# Altium schematic symbol library yu0316-NSC_LDO.SchLib: 2590 symbols (part 22 of 64)
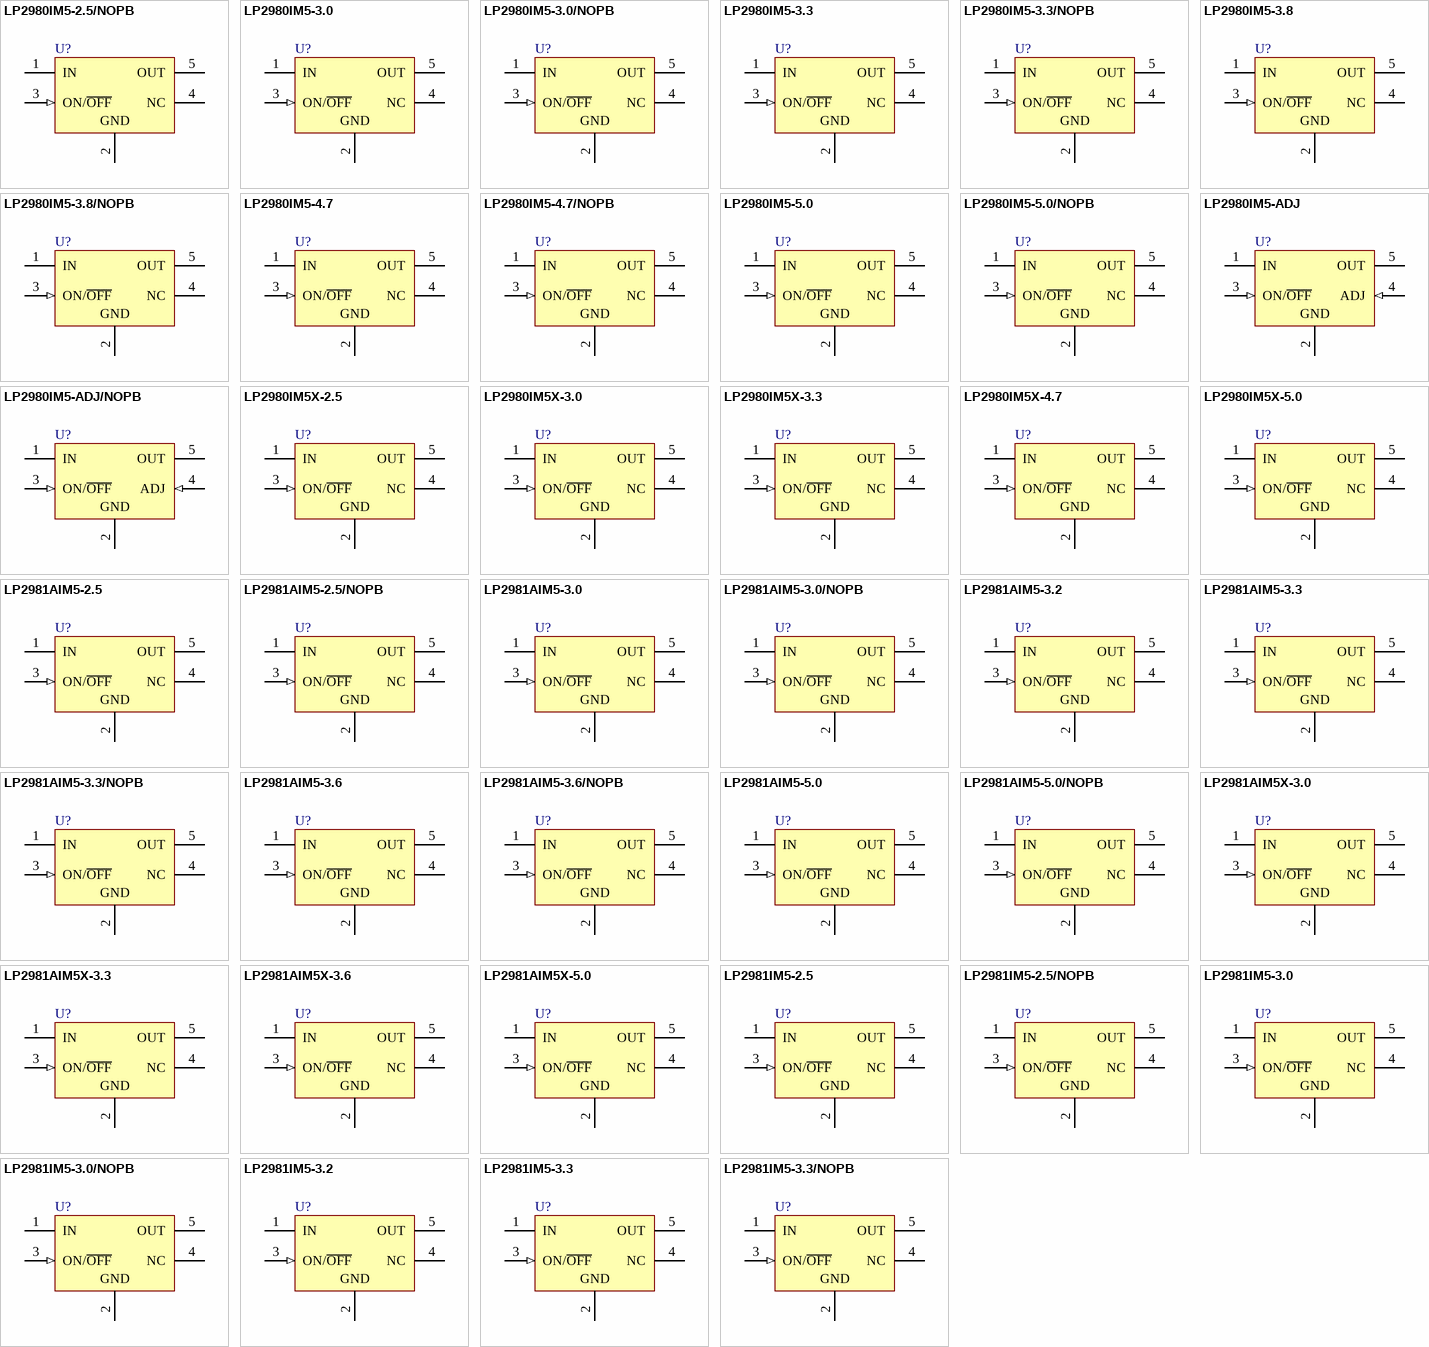
[diagram p86: symbols LP2980IM5-2.5/NOPB to LP2981IM5-3.3/NOPB]

## LP2981AIM5-2.5/NOPB
designator U?
Micropower 100 mA Ultra Low-Dropout Regulator, 5-pin SOT-23, Pb-Free; PartNumber: LP2981AIM5-2.5/NOPB; Manufacturer: National Semiconductor; PackageTopMarking: L0CA*XTT; PowerWise: N; CompType: LDO IC; Published: 1-Mar-2010; DatasheetVersion: Feb-2006; PackageVersion: revD, Aug-2008; PackageReference: MF05A; Publisher: Altium Limited; PackageDescription: Molded SOT-23, .115 x .063 x .040 in Body, 5 Lead, .0375 in Pitch; Supplier 1: Digi-Key; Supplier Part Number 1: LP2981AIM5-2.5TR-ND; Supplier 2: Digi-Key; Supplier Part Number 2: LP2981AIM5-2.5CT-ND; Supplier 3: Digi-Key; Supplier Part Number 3: LP2981AIM5-2.5DKR-ND; Supplier 4: Farnell; Supplier Part Number 4: 1469128; RoHS: Y; PinCount: 5; ComponentLink1Description: LP2981 Datasheet; ComponentLink1URL: http://www.national.com/ds/LP/LP2981.pdf; ComponentLink2Description: LP2981 Web Page; ComponentLink2URL: http://www.national.com/pf/LP/LP2981.html; ComponentLink3Description: MF05A Package Page; ComponentLink3URL: http://www.national.com/packaging/folders/mf05a.html
footprint MF05A_N (SOT23, 5-Leads, Body 2.9x1.6mm, Pitch 0.95mm, Lead Span 2.8mm, IPC Medium Density)
footprint MF05A_L (SOT23, 5-Leads, Body 2.9x1.6mm, Pitch 0.95mm, Lead Span 2.8mm, IPC High Density)
footprint MF05A_M (SOT23, 5-Leads, Body 2.9x1.6mm, Pitch 0.95mm, Lead Span 2.8mm, IPC Low Density)
pins: 1 IN (power), 2 GND (power), 3 ON/~{OFF} (in), 4 NC, 5 OUT (power)

## LP2981AIM5-3.0
designator U?
Micropower 100 mA Ultra Low-Dropout Regulator, 5-pin SOT-23; PartNumber: LP2981AIM5-3.0; Manufacturer: National Semiconductor; PackageTopMarking: L05A*XTT; PowerWise: N; CompType: LDO IC; Published: 4-Dec-2008; DatasheetVersion: Feb-2006; PackageVersion: revD, Aug-2008; PackageReference: MF05A; Publisher: Altium Limited; PackageDescription: Molded SOT-23, .115 x .063 x .040 in Body, 5 Lead, .0375 in Pitch; Supplier 1: Farnell; Supplier Part Number 1: 956156; RoHS: N; PinCount: 5; ComponentLink1Description: LP2981 Datasheet; ComponentLink1URL: http://www.national.com/ds/LP/LP2981.pdf; ComponentLink2Description: LP2981 Web Page; ComponentLink2URL: http://www.national.com/pf/LP/LP2981.html; ComponentLink3Description: MF05A Package Page; ComponentLink3URL: http://www.national.com/packaging/folders/mf05a.html
footprint MF05A_N (SOT23, 5-Leads, Body 2.9x1.6mm, Pitch 0.95mm, Lead Span 2.8mm, IPC Medium Density)
footprint MF05A_L (SOT23, 5-Leads, Body 2.9x1.6mm, Pitch 0.95mm, Lead Span 2.8mm, IPC High Density)
footprint MF05A_M (SOT23, 5-Leads, Body 2.9x1.6mm, Pitch 0.95mm, Lead Span 2.8mm, IPC Low Density)
pins: 1 IN (power), 2 GND (power), 3 ON/~{OFF} (in), 4 NC, 5 OUT (power)

## LP2981AIM5-3.0/NOPB
designator U?
Micropower 100 mA Ultra Low-Dropout Regulator, 5-pin SOT-23, Pb-Free; PartNumber: LP2981AIM5-3.0/NOPB; Manufacturer: National Semiconductor; PackageTopMarking: L05A*XTT; PowerWise: N; CompType: LDO IC; Published: 1-Mar-2010; DatasheetVersion: Feb-2006; PackageVersion: revD, Aug-2008; PackageReference: MF05A; Publisher: Altium Limited; PackageDescription: Molded SOT-23, .115 x .063 x .040 in Body, 5 Lead, .0375 in Pitch; Supplier 1: Digi-Key; Supplier Part Number 1: LP2981AIM5-3.0TR-ND; Supplier 2: Digi-Key; Supplier Part Number 2: LP2981AIM5-3.0CT-ND; Supplier 3: Digi-Key; Supplier Part Number 3: LP2981AIM5-3.0DKR-ND; Supplier 4: Farnell; Supplier Part Number 4: 1685571; RoHS: Y; PinCount: 5; ComponentLink1Description: LP2981 Datasheet; ComponentLink1URL: http://www.national.com/ds/LP/LP2981.pdf; ComponentLink2Description: LP2981 Web Page; ComponentLink2URL: http://www.national.com/pf/LP/LP2981.html; ComponentLink3Description: MF05A Package Page; ComponentLink3URL: http://www.national.com/packaging/folders/mf05a.html
footprint MF05A_N (SOT23, 5-Leads, Body 2.9x1.6mm, Pitch 0.95mm, Lead Span 2.8mm, IPC Medium Density)
footprint MF05A_L (SOT23, 5-Leads, Body 2.9x1.6mm, Pitch 0.95mm, Lead Span 2.8mm, IPC High Density)
footprint MF05A_M (SOT23, 5-Leads, Body 2.9x1.6mm, Pitch 0.95mm, Lead Span 2.8mm, IPC Low Density)
pins: 1 IN (power), 2 GND (power), 3 ON/~{OFF} (in), 4 NC, 5 OUT (power)

## LP2981AIM5-3.2
designator U?
Micropower 100 mA Ultra Low-Dropout Regulator, 5-pin SOT-23; PartNumber: LP2981AIM5-3.2; Manufacturer: National Semiconductor; PackageTopMarking: L35A*XTT; PowerWise: N; CompType: LDO IC; Published: 4-Dec-2008; DatasheetVersion: Feb-2006; PackageVersion: revD, Aug-2008; PackageReference: MF05A; Publisher: Altium Limited; PackageDescription: Molded SOT-23, .115 x .063 x .040 in Body, 5 Lead, .0375 in Pitch; RoHS: N; PinCount: 5; ComponentLink1Description: LP2981 Datasheet; ComponentLink1URL: http://www.national.com/ds/LP/LP2981.pdf; ComponentLink2Description: LP2981 Web Page; ComponentLink2URL: http://www.national.com/pf/LP/LP2981.html; ComponentLink3Description: MF05A Package Page; ComponentLink3URL: http://www.national.com/packaging/folders/mf05a.html
footprint MF05A_N (SOT23, 5-Leads, Body 2.9x1.6mm, Pitch 0.95mm, Lead Span 2.8mm, IPC Medium Density)
footprint MF05A_L (SOT23, 5-Leads, Body 2.9x1.6mm, Pitch 0.95mm, Lead Span 2.8mm, IPC High Density)
footprint MF05A_M (SOT23, 5-Leads, Body 2.9x1.6mm, Pitch 0.95mm, Lead Span 2.8mm, IPC Low Density)
pins: 1 IN (power), 2 GND (power), 3 ON/~{OFF} (in), 4 NC, 5 OUT (power)

## LP2981AIM5-3.3
designator U?
Micropower 100 mA Ultra Low-Dropout Regulator, 5-pin SOT-23; PartNumber: LP2981AIM5-3.3; Manufacturer: National Semiconductor; PackageTopMarking: L04A*XTT; PowerWise: N; CompType: LDO IC; Published: 4-Dec-2008; DatasheetVersion: Feb-2006; PackageVersion: revD, Aug-2008; PackageReference: MF05A; Publisher: Altium Limited; PackageDescription: Molded SOT-23, .115 x .063 x .040 in Body, 5 Lead, .0375 in Pitch; RoHS: N; PinCount: 5; ComponentLink1Description: LP2981 Datasheet; ComponentLink1URL: http://www.national.com/ds/LP/LP2981.pdf; ComponentLink2Description: LP2981 Web Page; ComponentLink2URL: http://www.national.com/pf/LP/LP2981.html; ComponentLink3Description: MF05A Package Page; ComponentLink3URL: http://www.national.com/packaging/folders/mf05a.html
footprint MF05A_N (SOT23, 5-Leads, Body 2.9x1.6mm, Pitch 0.95mm, Lead Span 2.8mm, IPC Medium Density)
footprint MF05A_L (SOT23, 5-Leads, Body 2.9x1.6mm, Pitch 0.95mm, Lead Span 2.8mm, IPC High Density)
footprint MF05A_M (SOT23, 5-Leads, Body 2.9x1.6mm, Pitch 0.95mm, Lead Span 2.8mm, IPC Low Density)
pins: 1 IN (power), 2 GND (power), 3 ON/~{OFF} (in), 4 NC, 5 OUT (power)

## LP2981AIM5-3.3/NOPB
designator U?
Micropower 100 mA Ultra Low-Dropout Regulator, 5-pin SOT-23, Pb-Free; PartNumber: LP2981AIM5-3.3/NOPB; Manufacturer: National Semiconductor; PackageTopMarking: L04A*XTT; PowerWise: N; CompType: LDO IC; Published: 1-Mar-2010; DatasheetVersion: Feb-2006; PackageVersion: revD, Aug-2008; PackageReference: MF05A; Publisher: Altium Limited; PackageDescription: Molded SOT-23, .115 x .063 x .040 in Body, 5 Lead, .0375 in Pitch; Supplier 1: Digi-Key; Supplier Part Number 1: LP2981AIM5-3.3TR-ND; Supplier 2: Digi-Key; Supplier Part Number 2: LP2981AIM5-3.3CT-ND; Supplier 3: Digi-Key; Supplier Part Number 3: LP2981AIM5-3.3DKR-ND; Supplier 4: Farnell; Supplier Part Number 4: 1469129; RoHS: Y; PinCount: 5; ComponentLink1Description: LP2981 Datasheet; ComponentLink1URL: http://www.national.com/ds/LP/LP2981.pdf; ComponentLink2Description: LP2981 Web Page; ComponentLink2URL: http://www.national.com/pf/LP/LP2981.html; ComponentLink3Description: MF05A Package Page; ComponentLink3URL: http://www.national.com/packaging/folders/mf05a.html
footprint MF05A_N (SOT23, 5-Leads, Body 2.9x1.6mm, Pitch 0.95mm, Lead Span 2.8mm, IPC Medium Density)
footprint MF05A_L (SOT23, 5-Leads, Body 2.9x1.6mm, Pitch 0.95mm, Lead Span 2.8mm, IPC High Density)
footprint MF05A_M (SOT23, 5-Leads, Body 2.9x1.6mm, Pitch 0.95mm, Lead Span 2.8mm, IPC Low Density)
pins: 1 IN (power), 2 GND (power), 3 ON/~{OFF} (in), 4 NC, 5 OUT (power)

## LP2981AIM5-3.6
designator U?
Micropower 100 mA Ultra Low-Dropout Regulator, 5-pin SOT-23; PartNumber: LP2981AIM5-3.6; Manufacturer: National Semiconductor; PackageTopMarking: L0JA*XTT; PowerWise: N; CompType: LDO IC; Published: 4-Dec-2008; DatasheetVersion: Feb-2006; PackageVersion: revD, Aug-2008; PackageReference: MF05A; Publisher: Altium Limited; PackageDescription: Molded SOT-23, .115 x .063 x .040 in Body, 5 Lead, .0375 in Pitch; RoHS: N; PinCount: 5; ComponentLink1Description: LP2981 Datasheet; ComponentLink1URL: http://www.national.com/ds/LP/LP2981.pdf; ComponentLink2Description: LP2981 Web Page; ComponentLink2URL: http://www.national.com/pf/LP/LP2981.html; ComponentLink3Description: MF05A Package Page; ComponentLink3URL: http://www.national.com/packaging/folders/mf05a.html
footprint MF05A_N (SOT23, 5-Leads, Body 2.9x1.6mm, Pitch 0.95mm, Lead Span 2.8mm, IPC Medium Density)
footprint MF05A_L (SOT23, 5-Leads, Body 2.9x1.6mm, Pitch 0.95mm, Lead Span 2.8mm, IPC High Density)
footprint MF05A_M (SOT23, 5-Leads, Body 2.9x1.6mm, Pitch 0.95mm, Lead Span 2.8mm, IPC Low Density)
pins: 1 IN (power), 2 GND (power), 3 ON/~{OFF} (in), 4 NC, 5 OUT (power)

## LP2981AIM5-3.6/NOPB
designator U?
Micropower 100 mA Ultra Low-Dropout Regulator, 5-pin SOT-23, Pb-Free; PartNumber: LP2981AIM5-3.6/NOPB; Manufacturer: National Semiconductor; PackageTopMarking: L0JA*XTT; PowerWise: N; CompType: LDO IC; Published: 1-Mar-2010; DatasheetVersion: Feb-2006; PackageVersion: revD, Aug-2008; PackageReference: MF05A; Publisher: Altium Limited; PackageDescription: Molded SOT-23, .115 x .063 x .040 in Body, 5 Lead, .0375 in Pitch; Supplier 1: Digi-Key; Supplier Part Number 1: LP2981AIM5-3.6TR-ND; Supplier 2: Digi-Key; Supplier Part Number 2: LP2981AIM5-3.6CT-ND; Supplier 3: Digi-Key; Supplier Part Number 3: LP2981AIM5-3.6DKR-ND; Supplier 4: Farnell; Supplier Part Number 4: 1685548; RoHS: Y; PinCount: 5; ComponentLink1Description: LP2981 Datasheet; ComponentLink1URL: http://www.national.com/ds/LP/LP2981.pdf; ComponentLink2Description: LP2981 Web Page; ComponentLink2URL: http://www.national.com/pf/LP/LP2981.html; ComponentLink3Description: MF05A Package Page; ComponentLink3URL: http://www.national.com/packaging/folders/mf05a.html
footprint MF05A_N (SOT23, 5-Leads, Body 2.9x1.6mm, Pitch 0.95mm, Lead Span 2.8mm, IPC Medium Density)
footprint MF05A_L (SOT23, 5-Leads, Body 2.9x1.6mm, Pitch 0.95mm, Lead Span 2.8mm, IPC High Density)
footprint MF05A_M (SOT23, 5-Leads, Body 2.9x1.6mm, Pitch 0.95mm, Lead Span 2.8mm, IPC Low Density)
pins: 1 IN (power), 2 GND (power), 3 ON/~{OFF} (in), 4 NC, 5 OUT (power)

## LP2981AIM5-5.0
designator U?
Micropower 100 mA Ultra Low-Dropout Regulator, 5-pin SOT-23; PartNumber: LP2981AIM5-5.0; Manufacturer: National Semiconductor; PackageTopMarking: L03A*XTT; PowerWise: N; CompType: LDO IC; Published: 4-Dec-2008; DatasheetVersion: Feb-2006; PackageVersion: revD, Aug-2008; PackageReference: MF05A; Publisher: Altium Limited; PackageDescription: Molded SOT-23, .115 x .063 x .040 in Body, 5 Lead, .0375 in Pitch; Supplier 1: Farnell; Supplier Part Number 1: 9779957; RoHS: N; PinCount: 5; ComponentLink1Description: LP2981 Datasheet; ComponentLink1URL: http://www.national.com/ds/LP/LP2981.pdf; ComponentLink2Description: LP2981 Web Page; ComponentLink2URL: http://www.national.com/pf/LP/LP2981.html; ComponentLink3Description: MF05A Package Page; ComponentLink3URL: http://www.national.com/packaging/folders/mf05a.html
footprint MF05A_N (SOT23, 5-Leads, Body 2.9x1.6mm, Pitch 0.95mm, Lead Span 2.8mm, IPC Medium Density)
footprint MF05A_L (SOT23, 5-Leads, Body 2.9x1.6mm, Pitch 0.95mm, Lead Span 2.8mm, IPC High Density)
footprint MF05A_M (SOT23, 5-Leads, Body 2.9x1.6mm, Pitch 0.95mm, Lead Span 2.8mm, IPC Low Density)
pins: 1 IN (power), 2 GND (power), 3 ON/~{OFF} (in), 4 NC, 5 OUT (power)

## LP2981AIM5-5.0/NOPB
designator U?
Micropower 100 mA Ultra Low-Dropout Regulator, 5-pin SOT-23, Pb-Free; PartNumber: LP2981AIM5-5.0/NOPB; Manufacturer: National Semiconductor; PackageTopMarking: L03A*XTT; PowerWise: N; CompType: LDO IC; Published: 1-Mar-2010; DatasheetVersion: Feb-2006; PackageVersion: revD, Aug-2008; PackageReference: MF05A; Publisher: Altium Limited; PackageDescription: Molded SOT-23, .115 x .063 x .040 in Body, 5 Lead, .0375 in Pitch; Supplier 1: Digi-Key; Supplier Part Number 1: LP2981AIM5-5.0TR-ND; Supplier 2: Digi-Key; Supplier Part Number 2: LP2981AIM5-5.0CT-ND; Supplier 3: Digi-Key; Supplier Part Number 3: LP2981AIM5-5.0DKR-ND; Supplier 4: Farnell; Supplier Part Number 4: 1150330; RoHS: Y; PinCount: 5; ComponentLink1Description: LP2981 Datasheet; ComponentLink1URL: http://www.national.com/ds/LP/LP2981.pdf; ComponentLink2Description: LP2981 Web Page; ComponentLink2URL: http://www.national.com/pf/LP/LP2981.html; ComponentLink3Description: MF05A Package Page; ComponentLink3URL: http://www.national.com/packaging/folders/mf05a.html
footprint MF05A_N (SOT23, 5-Leads, Body 2.9x1.6mm, Pitch 0.95mm, Lead Span 2.8mm, IPC Medium Density)
footprint MF05A_L (SOT23, 5-Leads, Body 2.9x1.6mm, Pitch 0.95mm, Lead Span 2.8mm, IPC High Density)
footprint MF05A_M (SOT23, 5-Leads, Body 2.9x1.6mm, Pitch 0.95mm, Lead Span 2.8mm, IPC Low Density)
pins: 1 IN (power), 2 GND (power), 3 ON/~{OFF} (in), 4 NC, 5 OUT (power)

## LP2981AIM5X-3.0
designator U?
Micropower 100 mA Ultra Low-Dropout Regulator, 5-pin SOT-23; PartNumber: LP2981AIM5X-3.0; Manufacturer: National Semiconductor; PackageTopMarking: L05A*XTT; PowerWise: N; CompType: LDO IC; Published: 1-Mar-2010; DatasheetVersion: Feb-2006; PackageVersion: revD, Aug-2008; PackageReference: MF05A; Publisher: Altium Limited; PackageDescription: Molded SOT-23, .115 x .063 x .040 in Body, 5 Lead, .0375 in Pitch; RoHS: N; PinCount: 5; ComponentLink1Description: LP2981 Datasheet; ComponentLink1URL: http://www.national.com/ds/LP/LP2981.pdf; ComponentLink2Description: LP2981 Web Page; ComponentLink2URL: http://www.national.com/pf/LP/LP2981.html; ComponentLink3Description: MF05A Package Page; ComponentLink3URL: http://www.national.com/packaging/folders/mf05a.html
footprint MF05A_N (SOT23, 5-Leads, Body 2.9x1.6mm, Pitch 0.95mm, Lead Span 2.8mm, IPC Medium Density)
footprint MF05A_L (SOT23, 5-Leads, Body 2.9x1.6mm, Pitch 0.95mm, Lead Span 2.8mm, IPC High Density)
footprint MF05A_M (SOT23, 5-Leads, Body 2.9x1.6mm, Pitch 0.95mm, Lead Span 2.8mm, IPC Low Density)
pins: 1 IN (power), 2 GND (power), 3 ON/~{OFF} (in), 4 NC, 5 OUT (power)

## LP2981AIM5X-3.3
designator U?
Micropower 100 mA Ultra Low-Dropout Regulator, 5-pin SOT-23; PartNumber: LP2981AIM5X-3.3; Manufacturer: National Semiconductor; PackageTopMarking: L04A*XTT; PowerWise: N; CompType: LDO IC; Published: 1-Mar-2010; DatasheetVersion: Feb-2006; PackageVersion: revD, Aug-2008; PackageReference: MF05A; Publisher: Altium Limited; PackageDescription: Molded SOT-23, .115 x .063 x .040 in Body, 5 Lead, .0375 in Pitch; RoHS: N; PinCount: 5; ComponentLink1Description: LP2981 Datasheet; ComponentLink1URL: http://www.national.com/ds/LP/LP2981.pdf; ComponentLink2Description: LP2981 Web Page; ComponentLink2URL: http://www.national.com/pf/LP/LP2981.html; ComponentLink3Description: MF05A Package Page; ComponentLink3URL: http://www.national.com/packaging/folders/mf05a.html
footprint MF05A_N (SOT23, 5-Leads, Body 2.9x1.6mm, Pitch 0.95mm, Lead Span 2.8mm, IPC Medium Density)
footprint MF05A_L (SOT23, 5-Leads, Body 2.9x1.6mm, Pitch 0.95mm, Lead Span 2.8mm, IPC High Density)
footprint MF05A_M (SOT23, 5-Leads, Body 2.9x1.6mm, Pitch 0.95mm, Lead Span 2.8mm, IPC Low Density)
pins: 1 IN (power), 2 GND (power), 3 ON/~{OFF} (in), 4 NC, 5 OUT (power)

## LP2981AIM5X-3.6
designator U?
Micropower 100 mA Ultra Low-Dropout Regulator, 5-pin SOT-23; PartNumber: LP2981AIM5X-3.6; Manufacturer: National Semiconductor; PackageTopMarking: L0JA*XTT; PowerWise: N; CompType: LDO IC; Published: 1-Mar-2010; DatasheetVersion: Feb-2006; PackageVersion: revD, Aug-2008; PackageReference: MF05A; Publisher: Altium Limited; PackageDescription: Molded SOT-23, .115 x .063 x .040 in Body, 5 Lead, .0375 in Pitch; RoHS: N; PinCount: 5; ComponentLink1Description: LP2981 Datasheet; ComponentLink1URL: http://www.national.com/ds/LP/LP2981.pdf; ComponentLink2Description: LP2981 Web Page; ComponentLink2URL: http://www.national.com/pf/LP/LP2981.html; ComponentLink3Description: MF05A Package Page; ComponentLink3URL: http://www.national.com/packaging/folders/mf05a.html
footprint MF05A_N (SOT23, 5-Leads, Body 2.9x1.6mm, Pitch 0.95mm, Lead Span 2.8mm, IPC Medium Density)
footprint MF05A_L (SOT23, 5-Leads, Body 2.9x1.6mm, Pitch 0.95mm, Lead Span 2.8mm, IPC High Density)
footprint MF05A_M (SOT23, 5-Leads, Body 2.9x1.6mm, Pitch 0.95mm, Lead Span 2.8mm, IPC Low Density)
pins: 1 IN (power), 2 GND (power), 3 ON/~{OFF} (in), 4 NC, 5 OUT (power)

## LP2981AIM5X-5.0
designator U?
Micropower 100 mA Ultra Low-Dropout Regulator, 5-pin SOT-23; PartNumber: LP2981AIM5X-5.0; Manufacturer: National Semiconductor; PackageTopMarking: L03A*XTT; PowerWise: N; CompType: LDO IC; Published: 1-Mar-2010; DatasheetVersion: Feb-2006; PackageVersion: revD, Aug-2008; PackageReference: MF05A; Publisher: Altium Limited; PackageDescription: Molded SOT-23, .115 x .063 x .040 in Body, 5 Lead, .0375 in Pitch; RoHS: N; PinCount: 5; ComponentLink1Description: LP2981 Datasheet; ComponentLink1URL: http://www.national.com/ds/LP/LP2981.pdf; ComponentLink2Description: LP2981 Web Page; ComponentLink2URL: http://www.national.com/pf/LP/LP2981.html; ComponentLink3Description: MF05A Package Page; ComponentLink3URL: http://www.national.com/packaging/folders/mf05a.html
footprint MF05A_N (SOT23, 5-Leads, Body 2.9x1.6mm, Pitch 0.95mm, Lead Span 2.8mm, IPC Medium Density)
footprint MF05A_L (SOT23, 5-Leads, Body 2.9x1.6mm, Pitch 0.95mm, Lead Span 2.8mm, IPC High Density)
footprint MF05A_M (SOT23, 5-Leads, Body 2.9x1.6mm, Pitch 0.95mm, Lead Span 2.8mm, IPC Low Density)
pins: 1 IN (power), 2 GND (power), 3 ON/~{OFF} (in), 4 NC, 5 OUT (power)

## LP2981IM5-2.5
designator U?
Micropower 100 mA Ultra Low-Dropout Regulator, 5-pin SOT-23; PartNumber: LP2981IM5-2.5; Manufacturer: National Semiconductor; PackageTopMarking: L0CB*XTT; PowerWise: N; CompType: LDO IC; Published: 4-Dec-2008; DatasheetVersion: Feb-2006; PackageVersion: revD, Aug-2008; PackageReference: MF05A; Publisher: Altium Limited; PackageDescription: Molded SOT-23, .115 x .063 x .040 in Body, 5 Lead, .0375 in Pitch; RoHS: N; PinCount: 5; ComponentLink1Description: LP2981 Datasheet; ComponentLink1URL: http://www.national.com/ds/LP/LP2981.pdf; ComponentLink2Description: LP2981 Web Page; ComponentLink2URL: http://www.national.com/pf/LP/LP2981.html; ComponentLink3Description: MF05A Package Page; ComponentLink3URL: http://www.national.com/packaging/folders/mf05a.html
footprint MF05A_N (SOT23, 5-Leads, Body 2.9x1.6mm, Pitch 0.95mm, Lead Span 2.8mm, IPC Medium Density)
footprint MF05A_L (SOT23, 5-Leads, Body 2.9x1.6mm, Pitch 0.95mm, Lead Span 2.8mm, IPC High Density)
footprint MF05A_M (SOT23, 5-Leads, Body 2.9x1.6mm, Pitch 0.95mm, Lead Span 2.8mm, IPC Low Density)
pins: 1 IN (power), 2 GND (power), 3 ON/~{OFF} (in), 4 NC, 5 OUT (power)

## LP2981IM5-2.5/NOPB
designator U?
Micropower 100 mA Ultra Low-Dropout Regulator, 5-pin SOT-23, Pb-Free; PartNumber: LP2981IM5-2.5/NOPB; Manufacturer: National Semiconductor; PackageTopMarking: L0CB*XTT; PowerWise: N; CompType: LDO IC; Published: 1-Mar-2010; DatasheetVersion: Feb-2006; PackageVersion: revD, Aug-2008; PackageReference: MF05A; Publisher: Altium Limited; PackageDescription: Molded SOT-23, .115 x .063 x .040 in Body, 5 Lead, .0375 in Pitch; Supplier 1: Digi-Key; Supplier Part Number 1: LP2981IM5-2.5TR-ND; Supplier 2: Digi-Key; Supplier Part Number 2: LP2981IM5-2.5CT-ND; Supplier 3: Digi-Key; Supplier Part Number 3: LP2981IM5-2.5DKR-ND; Supplier 4: Farnell; Supplier Part Number 4: 1685495; RoHS: Y; PinCount: 5; ComponentLink1Description: LP2981 Datasheet; ComponentLink1URL: http://www.national.com/ds/LP/LP2981.pdf; ComponentLink2Description: LP2981 Web Page; ComponentLink2URL: http://www.national.com/pf/LP/LP2981.html; ComponentLink3Description: MF05A Package Page; ComponentLink3URL: http://www.national.com/packaging/folders/mf05a.html
footprint MF05A_N (SOT23, 5-Leads, Body 2.9x1.6mm, Pitch 0.95mm, Lead Span 2.8mm, IPC Medium Density)
footprint MF05A_L (SOT23, 5-Leads, Body 2.9x1.6mm, Pitch 0.95mm, Lead Span 2.8mm, IPC High Density)
footprint MF05A_M (SOT23, 5-Leads, Body 2.9x1.6mm, Pitch 0.95mm, Lead Span 2.8mm, IPC Low Density)
pins: 1 IN (power), 2 GND (power), 3 ON/~{OFF} (in), 4 NC, 5 OUT (power)

## LP2981IM5-3.0
designator U?
Micropower 100 mA Ultra Low-Dropout Regulator, 5-pin SOT-23; PartNumber: LP2981IM5-3.0; Manufacturer: National Semiconductor; PackageTopMarking: L05B*XTT; PowerWise: N; CompType: LDO IC; Published: 4-Dec-2008; DatasheetVersion: Feb-2006; PackageVersion: revD, Aug-2008; PackageReference: MF05A; Publisher: Altium Limited; PackageDescription: Molded SOT-23, .115 x .063 x .040 in Body, 5 Lead, .0375 in Pitch; Supplier 1: Farnell; Supplier Part Number 1: 9779809; RoHS: N; PinCount: 5; ComponentLink1Description: LP2981 Datasheet; ComponentLink1URL: http://www.national.com/ds/LP/LP2981.pdf; ComponentLink2Description: LP2981 Web Page; ComponentLink2URL: http://www.national.com/pf/LP/LP2981.html; ComponentLink3Description: MF05A Package Page; ComponentLink3URL: http://www.national.com/packaging/folders/mf05a.html
footprint MF05A_N (SOT23, 5-Leads, Body 2.9x1.6mm, Pitch 0.95mm, Lead Span 2.8mm, IPC Medium Density)
footprint MF05A_L (SOT23, 5-Leads, Body 2.9x1.6mm, Pitch 0.95mm, Lead Span 2.8mm, IPC High Density)
footprint MF05A_M (SOT23, 5-Leads, Body 2.9x1.6mm, Pitch 0.95mm, Lead Span 2.8mm, IPC Low Density)
pins: 1 IN (power), 2 GND (power), 3 ON/~{OFF} (in), 4 NC, 5 OUT (power)

## LP2981IM5-3.0/NOPB
designator U?
Micropower 100 mA Ultra Low-Dropout Regulator, 5-pin SOT-23, Pb-Free; PartNumber: LP2981IM5-3.0/NOPB; Manufacturer: National Semiconductor; PackageTopMarking: L05B*XTT; PowerWise: N; CompType: LDO IC; Published: 1-Mar-2010; DatasheetVersion: Feb-2006; PackageVersion: revD, Aug-2008; PackageReference: MF05A; Publisher: Altium Limited; PackageDescription: Molded SOT-23, .115 x .063 x .040 in Body, 5 Lead, .0375 in Pitch; Supplier 1: Digi-Key; Supplier Part Number 1: LP2981IM5-3.0TR-ND; Supplier 2: Digi-Key; Supplier Part Number 2: LP2981IM5-3.0CT-ND; Supplier 3: Digi-Key; Supplier Part Number 3: LP2981IM5-3.0DKR-ND; Supplier 4: Farnell; Supplier Part Number 4: 1694037; RoHS: Y; PinCount: 5; ComponentLink1Description: LP2981 Datasheet; ComponentLink1URL: http://www.national.com/ds/LP/LP2981.pdf; ComponentLink2Description: LP2981 Web Page; ComponentLink2URL: http://www.national.com/pf/LP/LP2981.html; ComponentLink3Description: MF05A Package Page; ComponentLink3URL: http://www.national.com/packaging/folders/mf05a.html
footprint MF05A_N (SOT23, 5-Leads, Body 2.9x1.6mm, Pitch 0.95mm, Lead Span 2.8mm, IPC Medium Density)
footprint MF05A_L (SOT23, 5-Leads, Body 2.9x1.6mm, Pitch 0.95mm, Lead Span 2.8mm, IPC High Density)
footprint MF05A_M (SOT23, 5-Leads, Body 2.9x1.6mm, Pitch 0.95mm, Lead Span 2.8mm, IPC Low Density)
pins: 1 IN (power), 2 GND (power), 3 ON/~{OFF} (in), 4 NC, 5 OUT (power)

## LP2981IM5-3.2
designator U?
Micropower 100 mA Ultra Low-Dropout Regulator, 5-pin SOT-23; PartNumber: LP2981IM5-3.2; Manufacturer: National Semiconductor; PackageTopMarking: L35B*XTT; PowerWise: N; CompType: LDO IC; Published: 4-Dec-2008; DatasheetVersion: Feb-2006; PackageVersion: revD, Aug-2008; PackageReference: MF05A; Publisher: Altium Limited; PackageDescription: Molded SOT-23, .115 x .063 x .040 in Body, 5 Lead, .0375 in Pitch; Supplier 1: Digi-Key; Supplier Part Number 1: LP2981IM5-3.2CT-ND; RoHS: Y; PinCount: 5; ComponentLink1Description: LP2981 Datasheet; ComponentLink1URL: http://www.national.com/ds/LP/LP2981.pdf; ComponentLink2Description: LP2981 Web Page; ComponentLink2URL: http://www.national.com/pf/LP/LP2981.html; ComponentLink3Description: MF05A Package Page; ComponentLink3URL: http://www.national.com/packaging/folders/mf05a.html
footprint MF05A_N (SOT23, 5-Leads, Body 2.9x1.6mm, Pitch 0.95mm, Lead Span 2.8mm, IPC Medium Density)
footprint MF05A_L (SOT23, 5-Leads, Body 2.9x1.6mm, Pitch 0.95mm, Lead Span 2.8mm, IPC High Density)
footprint MF05A_M (SOT23, 5-Leads, Body 2.9x1.6mm, Pitch 0.95mm, Lead Span 2.8mm, IPC Low Density)
pins: 1 IN (power), 2 GND (power), 3 ON/~{OFF} (in), 4 NC, 5 OUT (power)

## LP2981IM5-3.3
designator U?
Micropower 100 mA Ultra Low-Dropout Regulator, 5-pin SOT-23; PartNumber: LP2981IM5-3.3; Manufacturer: National Semiconductor; PackageTopMarking: L04B*XTT; PowerWise: N; CompType: LDO IC; Published: 4-Dec-2008; DatasheetVersion: Feb-2006; PackageVersion: revD, Aug-2008; PackageReference: MF05A; Publisher: Altium Limited; PackageDescription: Molded SOT-23, .115 x .063 x .040 in Body, 5 Lead, .0375 in Pitch; Supplier 1: Digi-Key; Supplier Part Number 1: LP2981IM5-3.3-ND; Supplier 2: Farnell; Supplier Part Number 2: 9779965; RoHS: N; PinCount: 5; ComponentLink1Description: LP2981 Datasheet; ComponentLink1URL: http://www.national.com/ds/LP/LP2981.pdf; ComponentLink2Description: LP2981 Web Page; ComponentLink2URL: http://www.national.com/pf/LP/LP2981.html; ComponentLink3Description: MF05A Package Page; ComponentLink3URL: http://www.national.com/packaging/folders/mf05a.html
footprint MF05A_N (SOT23, 5-Leads, Body 2.9x1.6mm, Pitch 0.95mm, Lead Span 2.8mm, IPC Medium Density)
footprint MF05A_L (SOT23, 5-Leads, Body 2.9x1.6mm, Pitch 0.95mm, Lead Span 2.8mm, IPC High Density)
footprint MF05A_M (SOT23, 5-Leads, Body 2.9x1.6mm, Pitch 0.95mm, Lead Span 2.8mm, IPC Low Density)
pins: 1 IN (power), 2 GND (power), 3 ON/~{OFF} (in), 4 NC, 5 OUT (power)

## LP2981IM5-3.3/NOPB
designator U?
Micropower 100 mA Ultra Low-Dropout Regulator, 5-pin SOT-23, Pb-Free; PartNumber: LP2981IM5-3.3/NOPB; Manufacturer: National Semiconductor; PackageTopMarking: L04B*XTT; PowerWise: N; CompType: LDO IC; Published: 1-Mar-2010; DatasheetVersion: Feb-2006; PackageVersion: revD, Aug-2008; PackageReference: MF05A; Publisher: Altium Limited; PackageDescription: Molded SOT-23, .115 x .063 x .040 in Body, 5 Lead, .0375 in Pitch; Supplier 1: Digi-Key; Supplier Part Number 1: LP2981IM5-3.3/NOPBTR-ND; Supplier 2: Digi-Key; Supplier Part Number 2: LP2981IM5-3.3/NOPBCT-ND; Supplier 3: Farnell; Supplier Part Number 3: 1469130; RoHS: Y; PinCount: 5; ComponentLink1Description: LP2981 Datasheet; ComponentLink1URL: http://www.national.com/ds/LP/LP2981.pdf; ComponentLink2Description: LP2981 Web Page; ComponentLink2URL: http://www.national.com/pf/LP/LP2981.html; ComponentLink3Description: MF05A Package Page; ComponentLink3URL: http://www.national.com/packaging/folders/mf05a.html
footprint MF05A_N (SOT23, 5-Leads, Body 2.9x1.6mm, Pitch 0.95mm, Lead Span 2.8mm, IPC Medium Density)
footprint MF05A_L (SOT23, 5-Leads, Body 2.9x1.6mm, Pitch 0.95mm, Lead Span 2.8mm, IPC High Density)
footprint MF05A_M (SOT23, 5-Leads, Body 2.9x1.6mm, Pitch 0.95mm, Lead Span 2.8mm, IPC Low Density)
pins: 1 IN (power), 2 GND (power), 3 ON/~{OFF} (in), 4 NC, 5 OUT (power)

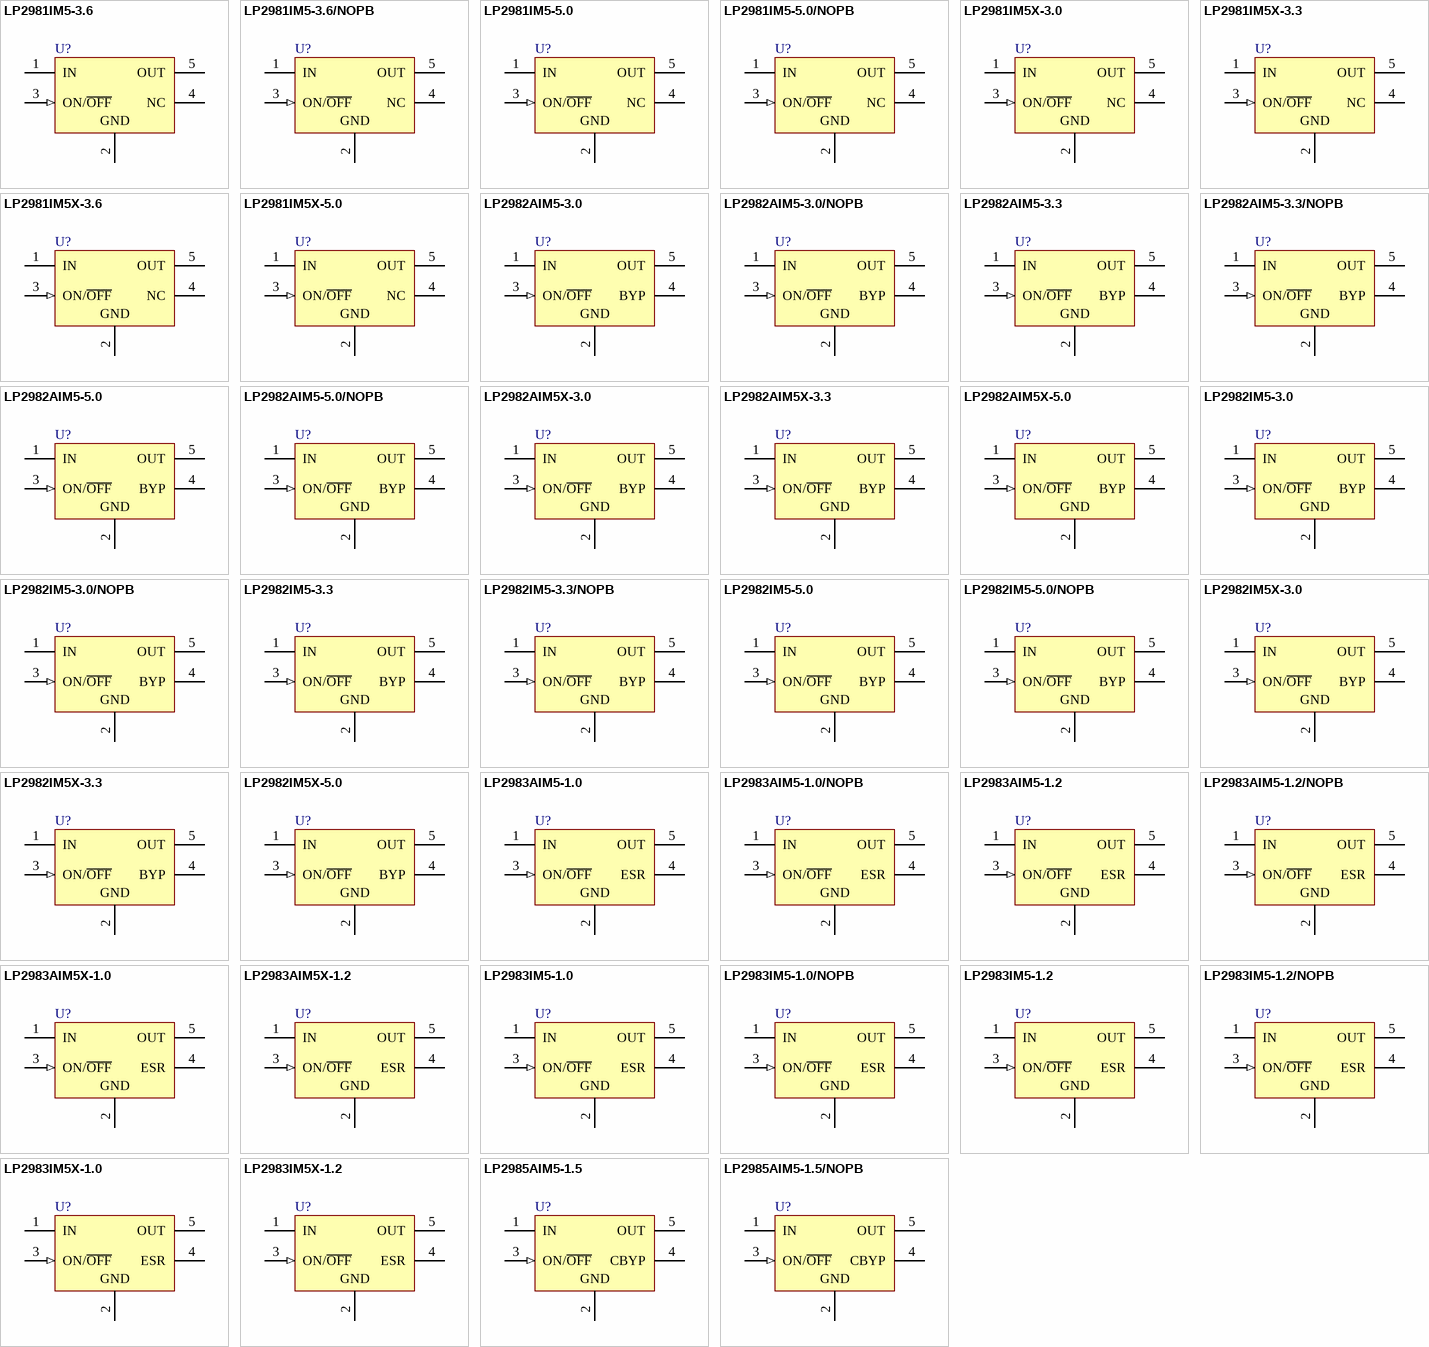
[diagram p23: symbols LP2981IM5-3.6 to LP2985AIM5-1.5/NOPB]

## LP2981IM5-3.6
designator U?
Micropower 100 mA Ultra Low-Dropout Regulator, 5-pin SOT-23; PartNumber: LP2981IM5-3.6; Manufacturer: National Semiconductor; PackageTopMarking: L0JB*XTT; PowerWise: N; CompType: LDO IC; Published: 4-Dec-2008; DatasheetVersion: Feb-2006; PackageVersion: revD, Aug-2008; PackageReference: MF05A; Publisher: Altium Limited; PackageDescription: Molded SOT-23, .115 x .063 x .040 in Body, 5 Lead, .0375 in Pitch; Supplier 1: Digi-Key; Supplier Part Number 1: LP2981IM5-3.6TR-ND; RoHS: N; PinCount: 5; ComponentLink1Description: LP2981 Datasheet; ComponentLink1URL: http://www.national.com/ds/LP/LP2981.pdf; ComponentLink2Description: LP2981 Web Page; ComponentLink2URL: http://www.national.com/pf/LP/LP2981.html; ComponentLink3Description: MF05A Package Page; ComponentLink3URL: http://www.national.com/packaging/folders/mf05a.html
footprint MF05A_N (SOT23, 5-Leads, Body 2.9x1.6mm, Pitch 0.95mm, Lead Span 2.8mm, IPC Medium Density)
footprint MF05A_L (SOT23, 5-Leads, Body 2.9x1.6mm, Pitch 0.95mm, Lead Span 2.8mm, IPC High Density)
footprint MF05A_M (SOT23, 5-Leads, Body 2.9x1.6mm, Pitch 0.95mm, Lead Span 2.8mm, IPC Low Density)
pins: 1 IN (power), 2 GND (power), 3 ON/~{OFF} (in), 4 NC, 5 OUT (power)

## LP2981IM5-3.6/NOPB
designator U?
Micropower 100 mA Ultra Low-Dropout Regulator, 5-pin SOT-23, Pb-Free; PartNumber: LP2981IM5-3.6/NOPB; Manufacturer: National Semiconductor; PackageTopMarking: L0JB*XTT; PowerWise: N; CompType: LDO IC; Published: 1-Mar-2010; DatasheetVersion: Feb-2006; PackageVersion: revD, Aug-2008; PackageReference: MF05A; Publisher: Altium Limited; PackageDescription: Molded SOT-23, .115 x .063 x .040 in Body, 5 Lead, .0375 in Pitch; Supplier 1: Digi-Key; Supplier Part Number 1: LP2981IM5-3.6/NOPBTR-ND; Supplier 2: Digi-Key; Supplier Part Number 2: LP2981IM5-3.6/NOPBCT-ND; Supplier 3: Digi-Key; Supplier Part Number 3: LP2981IM5-3.6/NOPBDKR-ND; Supplier 4: Farnell; Supplier Part Number 4: 1694553; RoHS: Y; PinCount: 5; ComponentLink1Description: LP2981 Datasheet; ComponentLink1URL: http://www.national.com/ds/LP/LP2981.pdf; ComponentLink2Description: LP2981 Web Page; ComponentLink2URL: http://www.national.com/pf/LP/LP2981.html; ComponentLink3Description: MF05A Package Page; ComponentLink3URL: http://www.national.com/packaging/folders/mf05a.html
footprint MF05A_N (SOT23, 5-Leads, Body 2.9x1.6mm, Pitch 0.95mm, Lead Span 2.8mm, IPC Medium Density)
footprint MF05A_L (SOT23, 5-Leads, Body 2.9x1.6mm, Pitch 0.95mm, Lead Span 2.8mm, IPC High Density)
footprint MF05A_M (SOT23, 5-Leads, Body 2.9x1.6mm, Pitch 0.95mm, Lead Span 2.8mm, IPC Low Density)
pins: 1 IN (power), 2 GND (power), 3 ON/~{OFF} (in), 4 NC, 5 OUT (power)

## LP2981IM5-5.0
designator U?
Micropower 100 mA Ultra Low-Dropout Regulator, 5-pin SOT-23; PartNumber: LP2981IM5-5.0; Manufacturer: National Semiconductor; PackageTopMarking: L03B*XTT; PowerWise: N; CompType: LDO IC; Published: 4-Dec-2008; DatasheetVersion: Feb-2006; PackageVersion: revD, Aug-2008; PackageReference: MF05A; Publisher: Altium Limited; PackageDescription: Molded SOT-23, .115 x .063 x .040 in Body, 5 Lead, .0375 in Pitch; Supplier 1: Farnell; Supplier Part Number 1: 9779817; RoHS: N; PinCount: 5; ComponentLink1Description: LP2981 Datasheet; ComponentLink1URL: http://www.national.com/ds/LP/LP2981.pdf; ComponentLink2Description: LP2981 Web Page; ComponentLink2URL: http://www.national.com/pf/LP/LP2981.html; ComponentLink3Description: MF05A Package Page; ComponentLink3URL: http://www.national.com/packaging/folders/mf05a.html
footprint MF05A_N (SOT23, 5-Leads, Body 2.9x1.6mm, Pitch 0.95mm, Lead Span 2.8mm, IPC Medium Density)
footprint MF05A_L (SOT23, 5-Leads, Body 2.9x1.6mm, Pitch 0.95mm, Lead Span 2.8mm, IPC High Density)
footprint MF05A_M (SOT23, 5-Leads, Body 2.9x1.6mm, Pitch 0.95mm, Lead Span 2.8mm, IPC Low Density)
pins: 1 IN (power), 2 GND (power), 3 ON/~{OFF} (in), 4 NC, 5 OUT (power)

## LP2981IM5-5.0/NOPB
designator U?
Micropower 100 mA Ultra Low-Dropout Regulator, 5-pin SOT-23, Pb-Free; PartNumber: LP2981IM5-5.0/NOPB; Manufacturer: National Semiconductor; PackageTopMarking: L03B*XTT; PowerWise: N; CompType: LDO IC; Published: 1-Mar-2010; DatasheetVersion: Feb-2006; PackageVersion: revD, Aug-2008; PackageReference: MF05A; Publisher: Altium Limited; PackageDescription: Molded SOT-23, .115 x .063 x .040 in Body, 5 Lead, .0375 in Pitch; Supplier 1: Digi-Key; Supplier Part Number 1: LP2981IM5-5.0TR-ND; Supplier 2: Digi-Key; Supplier Part Number 2: LP2981IM5-5.0CT-ND; Supplier 3: Digi-Key; Supplier Part Number 3: LP2981IM5-5.0DKR-ND; Supplier 4: Farnell; Supplier Part Number 4: 1530907; RoHS: Y; PinCount: 5; ComponentLink1Description: LP2981 Datasheet; ComponentLink1URL: http://www.national.com/ds/LP/LP2981.pdf; ComponentLink2Description: LP2981 Web Page; ComponentLink2URL: http://www.national.com/pf/LP/LP2981.html; ComponentLink3Description: MF05A Package Page; ComponentLink3URL: http://www.national.com/packaging/folders/mf05a.html
footprint MF05A_N (SOT23, 5-Leads, Body 2.9x1.6mm, Pitch 0.95mm, Lead Span 2.8mm, IPC Medium Density)
footprint MF05A_L (SOT23, 5-Leads, Body 2.9x1.6mm, Pitch 0.95mm, Lead Span 2.8mm, IPC High Density)
footprint MF05A_M (SOT23, 5-Leads, Body 2.9x1.6mm, Pitch 0.95mm, Lead Span 2.8mm, IPC Low Density)
pins: 1 IN (power), 2 GND (power), 3 ON/~{OFF} (in), 4 NC, 5 OUT (power)

## LP2981IM5X-3.0
designator U?
Micropower 100 mA Ultra Low-Dropout Regulator, 5-pin SOT-23; PartNumber: LP2981IM5X-3.0; Manufacturer: National Semiconductor; PackageTopMarking: L05B*XTT; PowerWise: N; CompType: LDO IC; Published: 1-Mar-2010; DatasheetVersion: Feb-2006; PackageVersion: revD, Aug-2008; PackageReference: MF05A; Publisher: Altium Limited; PackageDescription: Molded SOT-23, .115 x .063 x .040 in Body, 5 Lead, .0375 in Pitch; RoHS: N; PinCount: 5; ComponentLink1Description: LP2981 Datasheet; ComponentLink1URL: http://www.national.com/ds/LP/LP2981.pdf; ComponentLink2Description: LP2981 Web Page; ComponentLink2URL: http://www.national.com/pf/LP/LP2981.html; ComponentLink3Description: MF05A Package Page; ComponentLink3URL: http://www.national.com/packaging/folders/mf05a.html
footprint MF05A_N (SOT23, 5-Leads, Body 2.9x1.6mm, Pitch 0.95mm, Lead Span 2.8mm, IPC Medium Density)
footprint MF05A_L (SOT23, 5-Leads, Body 2.9x1.6mm, Pitch 0.95mm, Lead Span 2.8mm, IPC High Density)
footprint MF05A_M (SOT23, 5-Leads, Body 2.9x1.6mm, Pitch 0.95mm, Lead Span 2.8mm, IPC Low Density)
pins: 1 IN (power), 2 GND (power), 3 ON/~{OFF} (in), 4 NC, 5 OUT (power)

## LP2981IM5X-3.3
designator U?
Micropower 100 mA Ultra Low-Dropout Regulator, 5-pin SOT-23; PartNumber: LP2981IM5X-3.3; Manufacturer: National Semiconductor; PackageTopMarking: L04B*XTT; PowerWise: N; CompType: LDO IC; Published: 1-Mar-2010; DatasheetVersion: Feb-2006; PackageVersion: revD, Aug-2008; PackageReference: MF05A; Publisher: Altium Limited; PackageDescription: Molded SOT-23, .115 x .063 x .040 in Body, 5 Lead, .0375 in Pitch; Supplier 1: Digi-Key; Supplier Part Number 1: LP2981IM5X-3.3TR-ND; Supplier 2: Digi-Key; Supplier Part Number 2: LP2981IM5X-3.3CT-ND; RoHS: N; PinCount: 5; ComponentLink1Description: LP2981 Datasheet; ComponentLink1URL: http://www.national.com/ds/LP/LP2981.pdf; ComponentLink2Description: LP2981 Web Page; ComponentLink2URL: http://www.national.com/pf/LP/LP2981.html; ComponentLink3Description: MF05A Package Page; ComponentLink3URL: http://www.national.com/packaging/folders/mf05a.html
footprint MF05A_N (SOT23, 5-Leads, Body 2.9x1.6mm, Pitch 0.95mm, Lead Span 2.8mm, IPC Medium Density)
footprint MF05A_L (SOT23, 5-Leads, Body 2.9x1.6mm, Pitch 0.95mm, Lead Span 2.8mm, IPC High Density)
footprint MF05A_M (SOT23, 5-Leads, Body 2.9x1.6mm, Pitch 0.95mm, Lead Span 2.8mm, IPC Low Density)
pins: 1 IN (power), 2 GND (power), 3 ON/~{OFF} (in), 4 NC, 5 OUT (power)

## LP2981IM5X-3.6
designator U?
Micropower 100 mA Ultra Low-Dropout Regulator, 5-pin SOT-23; PartNumber: LP2981IM5X-3.6; Manufacturer: National Semiconductor; PackageTopMarking: L0JB*XTT; PowerWise: N; CompType: LDO IC; Published: 1-Mar-2010; DatasheetVersion: Feb-2006; PackageVersion: revD, Aug-2008; PackageReference: MF05A; Publisher: Altium Limited; PackageDescription: Molded SOT-23, .115 x .063 x .040 in Body, 5 Lead, .0375 in Pitch; Supplier 1: Digi-Key; Supplier Part Number 1: LP2981IM5X-3.6TR-ND; Supplier 2: Digi-Key; Supplier Part Number 2: LP2981IM5X-3.6CT-ND; RoHS: N; PinCount: 5; ComponentLink1Description: LP2981 Datasheet; ComponentLink1URL: http://www.national.com/ds/LP/LP2981.pdf; ComponentLink2Description: LP2981 Web Page; ComponentLink2URL: http://www.national.com/pf/LP/LP2981.html; ComponentLink3Description: MF05A Package Page; ComponentLink3URL: http://www.national.com/packaging/folders/mf05a.html
footprint MF05A_N (SOT23, 5-Leads, Body 2.9x1.6mm, Pitch 0.95mm, Lead Span 2.8mm, IPC Medium Density)
footprint MF05A_L (SOT23, 5-Leads, Body 2.9x1.6mm, Pitch 0.95mm, Lead Span 2.8mm, IPC High Density)
footprint MF05A_M (SOT23, 5-Leads, Body 2.9x1.6mm, Pitch 0.95mm, Lead Span 2.8mm, IPC Low Density)
pins: 1 IN (power), 2 GND (power), 3 ON/~{OFF} (in), 4 NC, 5 OUT (power)

## LP2981IM5X-5.0
designator U?
Micropower 100 mA Ultra Low-Dropout Regulator, 5-pin SOT-23; PartNumber: LP2981IM5X-5.0; Manufacturer: National Semiconductor; PackageTopMarking: L03B*XTT; PowerWise: N; CompType: LDO IC; Published: 1-Mar-2010; DatasheetVersion: Feb-2006; PackageVersion: revD, Aug-2008; PackageReference: MF05A; Publisher: Altium Limited; PackageDescription: Molded SOT-23, .115 x .063 x .040 in Body, 5 Lead, .0375 in Pitch; RoHS: N; PinCount: 5; ComponentLink1Description: LP2981 Datasheet; ComponentLink1URL: http://www.national.com/ds/LP/LP2981.pdf; ComponentLink2Description: LP2981 Web Page; ComponentLink2URL: http://www.national.com/pf/LP/LP2981.html; ComponentLink3Description: MF05A Package Page; ComponentLink3URL: http://www.national.com/packaging/folders/mf05a.html
footprint MF05A_N (SOT23, 5-Leads, Body 2.9x1.6mm, Pitch 0.95mm, Lead Span 2.8mm, IPC Medium Density)
footprint MF05A_L (SOT23, 5-Leads, Body 2.9x1.6mm, Pitch 0.95mm, Lead Span 2.8mm, IPC High Density)
footprint MF05A_M (SOT23, 5-Leads, Body 2.9x1.6mm, Pitch 0.95mm, Lead Span 2.8mm, IPC Low Density)
pins: 1 IN (power), 2 GND (power), 3 ON/~{OFF} (in), 4 NC, 5 OUT (power)

## LP2982AIM5-3.0
designator U?
Micropower 50 mA Ultra Low-Dropout Regulator, 5-pin SOT-23; PartNumber: LP2982AIM5-3.0; Manufacturer: National Semiconductor; PackageTopMarking: L20A*XTT; PowerWise: N; CompType: LDO IC; Published: 4-Dec-2008; DatasheetVersion: Feb-2006; PackageVersion: revD, Aug-2008; PackageReference: MF05A; Publisher: Altium Limited; PackageDescription: Molded SOT-23, .115 x .063 x .040 in Body, 5 Lead, .0375 in Pitch; Supplier 1: Farnell; Supplier Part Number 1: 956193; RoHS: N; PinCount: 5; ComponentLink1Description: LP2982 Datasheet; ComponentLink1URL: http://www.national.com/ds/LP/LP2982.pdf; ComponentLink2Description: LP2982 Web Page; ComponentLink2URL: http://www.national.com/pf/LP/LP2982.html; ComponentLink3Description: MF05A Package Page; ComponentLink3URL: http://www.national.com/packaging/folders/mf05a.html
footprint MF05A_N (SOT23, 5-Leads, Body 2.9x1.6mm, Pitch 0.95mm, Lead Span 2.8mm, IPC Medium Density)
footprint MF05A_L (SOT23, 5-Leads, Body 2.9x1.6mm, Pitch 0.95mm, Lead Span 2.8mm, IPC High Density)
footprint MF05A_M (SOT23, 5-Leads, Body 2.9x1.6mm, Pitch 0.95mm, Lead Span 2.8mm, IPC Low Density)
pins: 1 IN (power), 2 GND (power), 3 ON/~{OFF} (in), 4 BYP, 5 OUT (power)

## LP2982AIM5-3.0/NOPB
designator U?
Micropower 50 mA Ultra Low-Dropout Regulator, 5-pin SOT-23, Pb-Free; PartNumber: LP2982AIM5-3.0/NOPB; Manufacturer: National Semiconductor; PackageTopMarking: L20A*XTT; PowerWise: N; CompType: LDO IC; Published: 1-Mar-2010; DatasheetVersion: Feb-2006; PackageVersion: revD, Aug-2008; PackageReference: MF05A; Publisher: Altium Limited; PackageDescription: Molded SOT-23, .115 x .063 x .040 in Body, 5 Lead, .0375 in Pitch; Supplier 1: Digi-Key; Supplier Part Number 1: LP2982AIM5-3.0TR-ND; Supplier 2: Digi-Key; Supplier Part Number 2: LP2982AIM5-3.0CT-ND; Supplier 3: Digi-Key; Supplier Part Number 3: LP2982AIM5-3.0DKR-ND; Supplier 4: Farnell; Supplier Part Number 4: 1685496; RoHS: Y; PinCount: 5; ComponentLink1Description: LP2982 Datasheet; ComponentLink1URL: http://www.national.com/ds/LP/LP2982.pdf; ComponentLink2Description: LP2982 Web Page; ComponentLink2URL: http://www.national.com/pf/LP/LP2982.html; ComponentLink3Description: MF05A Package Page; ComponentLink3URL: http://www.national.com/packaging/folders/mf05a.html
footprint MF05A_N (SOT23, 5-Leads, Body 2.9x1.6mm, Pitch 0.95mm, Lead Span 2.8mm, IPC Medium Density)
footprint MF05A_L (SOT23, 5-Leads, Body 2.9x1.6mm, Pitch 0.95mm, Lead Span 2.8mm, IPC High Density)
footprint MF05A_M (SOT23, 5-Leads, Body 2.9x1.6mm, Pitch 0.95mm, Lead Span 2.8mm, IPC Low Density)
pins: 1 IN (power), 2 GND (power), 3 ON/~{OFF} (in), 4 BYP, 5 OUT (power)

## LP2982AIM5-3.3
designator U?
Micropower 50 mA Ultra Low-Dropout Regulator, 5-pin SOT-23; PartNumber: LP2982AIM5-3.3; Manufacturer: National Semiconductor; PackageTopMarking: L19A*XTT; PowerWise: N; CompType: LDO IC; Published: 4-Dec-2008; DatasheetVersion: Feb-2006; PackageVersion: revD, Aug-2008; PackageReference: MF05A; Publisher: Altium Limited; PackageDescription: Molded SOT-23, .115 x .063 x .040 in Body, 5 Lead, .0375 in Pitch; RoHS: N; PinCount: 5; ComponentLink1Description: LP2982 Datasheet; ComponentLink1URL: http://www.national.com/ds/LP/LP2982.pdf; ComponentLink2Description: LP2982 Web Page; ComponentLink2URL: http://www.national.com/pf/LP/LP2982.html; ComponentLink3Description: MF05A Package Page; ComponentLink3URL: http://www.national.com/packaging/folders/mf05a.html
footprint MF05A_N (SOT23, 5-Leads, Body 2.9x1.6mm, Pitch 0.95mm, Lead Span 2.8mm, IPC Medium Density)
footprint MF05A_L (SOT23, 5-Leads, Body 2.9x1.6mm, Pitch 0.95mm, Lead Span 2.8mm, IPC High Density)
footprint MF05A_M (SOT23, 5-Leads, Body 2.9x1.6mm, Pitch 0.95mm, Lead Span 2.8mm, IPC Low Density)
pins: 1 IN (power), 2 GND (power), 3 ON/~{OFF} (in), 4 BYP, 5 OUT (power)

## LP2982AIM5-3.3/NOPB
designator U?
Micropower 50 mA Ultra Low-Dropout Regulator, 5-pin SOT-23, Pb-Free; PartNumber: LP2982AIM5-3.3/NOPB; Manufacturer: National Semiconductor; PackageTopMarking: L19A*XTT; PowerWise: N; CompType: LDO IC; Published: 1-Mar-2010; DatasheetVersion: Feb-2006; PackageVersion: revD, Aug-2008; PackageReference: MF05A; Publisher: Altium Limited; PackageDescription: Molded SOT-23, .115 x .063 x .040 in Body, 5 Lead, .0375 in Pitch; Supplier 1: Digi-Key; Supplier Part Number 1: LP2982AIM5-3.3TR-ND; Supplier 2: Digi-Key; Supplier Part Number 2: LP2982AIM5-3.3CT-ND; Supplier 3: Digi-Key; Supplier Part Number 3: LP2982AIM5-3.3DKR-ND; Supplier 4: Farnell; Supplier Part Number 4: 1652322; RoHS: Y; PinCount: 5; ComponentLink1Description: LP2982 Datasheet; ComponentLink1URL: http://www.national.com/ds/LP/LP2982.pdf; ComponentLink2Description: LP2982 Web Page; ComponentLink2URL: http://www.national.com/pf/LP/LP2982.html; ComponentLink3Description: MF05A Package Page; ComponentLink3URL: http://www.national.com/packaging/folders/mf05a.html
footprint MF05A_N (SOT23, 5-Leads, Body 2.9x1.6mm, Pitch 0.95mm, Lead Span 2.8mm, IPC Medium Density)
footprint MF05A_L (SOT23, 5-Leads, Body 2.9x1.6mm, Pitch 0.95mm, Lead Span 2.8mm, IPC High Density)
footprint MF05A_M (SOT23, 5-Leads, Body 2.9x1.6mm, Pitch 0.95mm, Lead Span 2.8mm, IPC Low Density)
pins: 1 IN (power), 2 GND (power), 3 ON/~{OFF} (in), 4 BYP, 5 OUT (power)

## LP2982AIM5-5.0
designator U?
Micropower 50 mA Ultra Low-Dropout Regulator, 5-pin SOT-23; PartNumber: LP2982AIM5-5.0; Manufacturer: National Semiconductor; PackageTopMarking: L18A*XTT; PowerWise: N; CompType: LDO IC; Published: 4-Dec-2008; DatasheetVersion: Feb-2006; PackageVersion: revD, Aug-2008; PackageReference: MF05A; Publisher: Altium Limited; PackageDescription: Molded SOT-23, .115 x .063 x .040 in Body, 5 Lead, .0375 in Pitch; Supplier 1: Farnell; Supplier Part Number 1: 956211; RoHS: N; PinCount: 5; ComponentLink1Description: LP2982 Datasheet; ComponentLink1URL: http://www.national.com/ds/LP/LP2982.pdf; ComponentLink2Description: LP2982 Web Page; ComponentLink2URL: http://www.national.com/pf/LP/LP2982.html; ComponentLink3Description: MF05A Package Page; ComponentLink3URL: http://www.national.com/packaging/folders/mf05a.html
footprint MF05A_N (SOT23, 5-Leads, Body 2.9x1.6mm, Pitch 0.95mm, Lead Span 2.8mm, IPC Medium Density)
footprint MF05A_L (SOT23, 5-Leads, Body 2.9x1.6mm, Pitch 0.95mm, Lead Span 2.8mm, IPC High Density)
footprint MF05A_M (SOT23, 5-Leads, Body 2.9x1.6mm, Pitch 0.95mm, Lead Span 2.8mm, IPC Low Density)
pins: 1 IN (power), 2 GND (power), 3 ON/~{OFF} (in), 4 BYP, 5 OUT (power)

## LP2982AIM5-5.0/NOPB
designator U?
Micropower 50 mA Ultra Low-Dropout Regulator, 5-pin SOT-23, Pb-Free; PartNumber: LP2982AIM5-5.0/NOPB; Manufacturer: National Semiconductor; PackageTopMarking: L18A*XTT; PowerWise: N; CompType: LDO IC; Published: 1-Mar-2010; DatasheetVersion: Feb-2006; PackageVersion: revD, Aug-2008; PackageReference: MF05A; Publisher: Altium Limited; PackageDescription: Molded SOT-23, .115 x .063 x .040 in Body, 5 Lead, .0375 in Pitch; Supplier 1: Digi-Key; Supplier Part Number 1: LP2982AIM5-5.0TR-ND; Supplier 2: Digi-Key; Supplier Part Number 2: LP2982AIM5-5.0CT-ND; Supplier 3: Digi-Key; Supplier Part Number 3: LP2982AIM5-5.0DKR-ND; Supplier 4: Farnell; Supplier Part Number 4: 1685676; RoHS: Y; PinCount: 5; ComponentLink1Description: LP2982 Datasheet; ComponentLink1URL: http://www.national.com/ds/LP/LP2982.pdf; ComponentLink2Description: LP2982 Web Page; ComponentLink2URL: http://www.national.com/pf/LP/LP2982.html; ComponentLink3Description: MF05A Package Page; ComponentLink3URL: http://www.national.com/packaging/folders/mf05a.html
footprint MF05A_N (SOT23, 5-Leads, Body 2.9x1.6mm, Pitch 0.95mm, Lead Span 2.8mm, IPC Medium Density)
footprint MF05A_L (SOT23, 5-Leads, Body 2.9x1.6mm, Pitch 0.95mm, Lead Span 2.8mm, IPC High Density)
footprint MF05A_M (SOT23, 5-Leads, Body 2.9x1.6mm, Pitch 0.95mm, Lead Span 2.8mm, IPC Low Density)
pins: 1 IN (power), 2 GND (power), 3 ON/~{OFF} (in), 4 BYP, 5 OUT (power)

## LP2982AIM5X-3.0
designator U?
Micropower 50 mA Ultra Low-Dropout Regulator, 5-pin SOT-23; PartNumber: LP2982AIM5X-3.0; Manufacturer: National Semiconductor; PackageTopMarking: L20A*XTT; PowerWise: N; CompType: LDO IC; Published: 1-Mar-2010; DatasheetVersion: Feb-2006; PackageVersion: revD, Aug-2008; PackageReference: MF05A; Publisher: Altium Limited; PackageDescription: Molded SOT-23, .115 x .063 x .040 in Body, 5 Lead, .0375 in Pitch; RoHS: N; PinCount: 5; ComponentLink1Description: LP2982 Datasheet; ComponentLink1URL: http://www.national.com/ds/LP/LP2982.pdf; ComponentLink2Description: LP2982 Web Page; ComponentLink2URL: http://www.national.com/pf/LP/LP2982.html; ComponentLink3Description: MF05A Package Page; ComponentLink3URL: http://www.national.com/packaging/folders/mf05a.html
footprint MF05A_N (SOT23, 5-Leads, Body 2.9x1.6mm, Pitch 0.95mm, Lead Span 2.8mm, IPC Medium Density)
footprint MF05A_L (SOT23, 5-Leads, Body 2.9x1.6mm, Pitch 0.95mm, Lead Span 2.8mm, IPC High Density)
footprint MF05A_M (SOT23, 5-Leads, Body 2.9x1.6mm, Pitch 0.95mm, Lead Span 2.8mm, IPC Low Density)
pins: 1 IN (power), 2 GND (power), 3 ON/~{OFF} (in), 4 BYP, 5 OUT (power)

## LP2982AIM5X-3.3
designator U?
Micropower 50 mA Ultra Low-Dropout Regulator, 5-pin SOT-23; PartNumber: LP2982AIM5X-3.3; Manufacturer: National Semiconductor; PackageTopMarking: L19A*XTT; PowerWise: N; CompType: LDO IC; Published: 1-Mar-2010; DatasheetVersion: Feb-2006; PackageVersion: revD, Aug-2008; PackageReference: MF05A; Publisher: Altium Limited; PackageDescription: Molded SOT-23, .115 x .063 x .040 in Body, 5 Lead, .0375 in Pitch; RoHS: N; PinCount: 5; ComponentLink1Description: LP2982 Datasheet; ComponentLink1URL: http://www.national.com/ds/LP/LP2982.pdf; ComponentLink2Description: LP2982 Web Page; ComponentLink2URL: http://www.national.com/pf/LP/LP2982.html; ComponentLink3Description: MF05A Package Page; ComponentLink3URL: http://www.national.com/packaging/folders/mf05a.html
footprint MF05A_N (SOT23, 5-Leads, Body 2.9x1.6mm, Pitch 0.95mm, Lead Span 2.8mm, IPC Medium Density)
footprint MF05A_L (SOT23, 5-Leads, Body 2.9x1.6mm, Pitch 0.95mm, Lead Span 2.8mm, IPC High Density)
footprint MF05A_M (SOT23, 5-Leads, Body 2.9x1.6mm, Pitch 0.95mm, Lead Span 2.8mm, IPC Low Density)
pins: 1 IN (power), 2 GND (power), 3 ON/~{OFF} (in), 4 BYP, 5 OUT (power)

## LP2982AIM5X-5.0
designator U?
Micropower 50 mA Ultra Low-Dropout Regulator, 5-pin SOT-23; PartNumber: LP2982AIM5X-5.0; Manufacturer: National Semiconductor; PackageTopMarking: L18A*XTT; PowerWise: N; CompType: LDO IC; Published: 1-Mar-2010; DatasheetVersion: Feb-2006; PackageVersion: revD, Aug-2008; PackageReference: MF05A; Publisher: Altium Limited; PackageDescription: Molded SOT-23, .115 x .063 x .040 in Body, 5 Lead, .0375 in Pitch; RoHS: N; PinCount: 5; ComponentLink1Description: LP2982 Datasheet; ComponentLink1URL: http://www.national.com/ds/LP/LP2982.pdf; ComponentLink2Description: LP2982 Web Page; ComponentLink2URL: http://www.national.com/pf/LP/LP2982.html; ComponentLink3Description: MF05A Package Page; ComponentLink3URL: http://www.national.com/packaging/folders/mf05a.html
footprint MF05A_N (SOT23, 5-Leads, Body 2.9x1.6mm, Pitch 0.95mm, Lead Span 2.8mm, IPC Medium Density)
footprint MF05A_L (SOT23, 5-Leads, Body 2.9x1.6mm, Pitch 0.95mm, Lead Span 2.8mm, IPC High Density)
footprint MF05A_M (SOT23, 5-Leads, Body 2.9x1.6mm, Pitch 0.95mm, Lead Span 2.8mm, IPC Low Density)
pins: 1 IN (power), 2 GND (power), 3 ON/~{OFF} (in), 4 BYP, 5 OUT (power)